# Altium schematic symbol library Chip ceramic capacitors.SchLib: 36 symbols
Pins are listed as number, name and electrical type; pins without a type are passive.

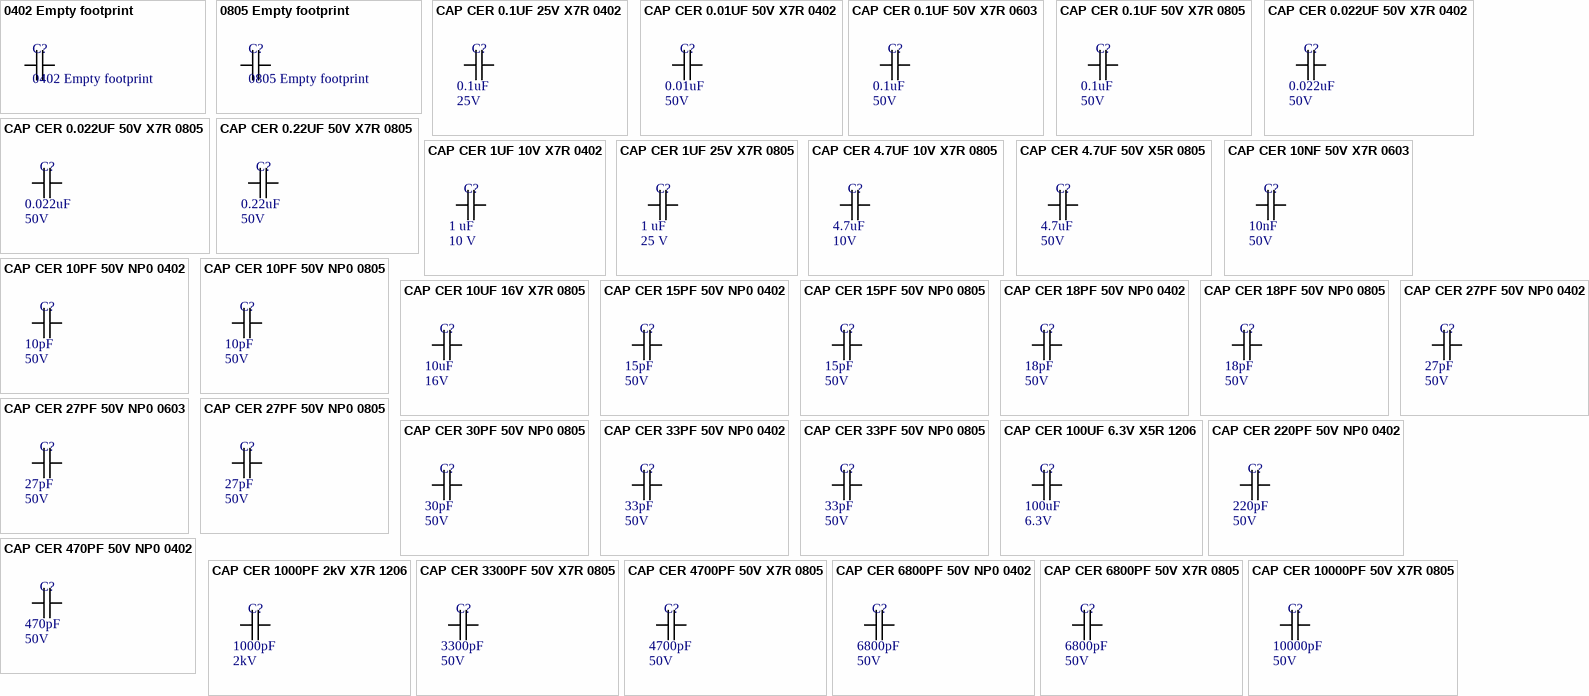
[diagram p0: symbols 0402 Empty footprint to CAP CER 10000PF 50V X7R 0805]

## 0402 Empty footprint
designator C?
footprint LC-0402_C
footprint LC-0402
pins: 1, 2

## 0805 Empty footprint
designator C?
Dielectric: x7r
footprint LC-0805_C
footprint LC-0805
pins: 1, 2

## CAP CER 0.1UF 25V X7R 0402
designator C?  value 0.1uF  Voltage: 25V  (hidden comment: CAP CER 0.1UF 25V X7R 0402)
Dielectric: x7r
footprint LC-0402_C
footprint LC-0402
pins: 1, 2

## CAP CER 0.01UF 50V X7R 0402
designator C?  value 0.01uF  Voltage: 50V  (hidden comment: CAP CER 0.01UF 50V X7R 0402)
Dielectric: x7r
footprint LC-0402_C
footprint LC-0402
pins: 1, 2

## CAP CER 0.1UF 50V X7R 0603
designator C?  value 0.1uF  Voltage: 50V  (hidden comment: CAP CER 0.1UF 50V X7R 0603)
Dielectric: x7r
footprint LC-0603_C
pins: 1, 2

## CAP CER 0.1UF 50V X7R 0805
designator C?  value 0.1uF  Voltage: 50V  (hidden comment: CAP CER 0.1UF 50V X7R 0805)
Dielectric: x7r; Supplier 1: Digi-Key; Supplier 2: Digi-Key; Supplier 3: Digi-Key; Supplier 4: Digi-Key; Supplier Part Number 1: 1276-1180-6-ND; Supplier Part Number 2: 478-3351-6-ND; Supplier Part Number 3: 1276-1003-1-ND; Supplier Part Number 4: 478-1395-6-ND
footprint LC-0805_C
footprint LC-0805
pins: 1, 2

## CAP CER 0.022UF 50V X7R 0402
designator C?  value 0.022uF  Voltage: 50V  (hidden comment: CAP CER 0.022UF 50V X7R 0402)
Dielectric: x7r
footprint LC-0402_C
footprint LC-0402
pins: 1, 2

## CAP CER 0.022UF 50V X7R 0805
designator C?  value 0.022uF  Voltage: 50V  (hidden comment: CAP CER 0.022UF 50V X7R 0805)
Dielectric: x7r; Supplier 1: Digi-Key; Supplier 2: Digi-Key; Supplier 3: Digi-Key; Supplier 4: Digi-Key; Supplier Part Number 1: 311-1138-6-ND; Supplier Part Number 2: 1276-1081-6-ND; Supplier Part Number 3: 478-1387-6-ND; Supplier Part Number 4: 399-1163-6-ND
footprint LC-0805_C
footprint LC-0805
pins: 1, 2

## CAP CER 0.22UF 50V X7R 0805
designator C?  value 0.22uF  Voltage: 50V  (hidden comment: CAP CER 0.22UF 50V X7R 0805)
Dielectric: x7r
footprint LC-0805_C
footprint LC-0805
pins: 1, 2

## CAP CER 1UF 10V X7R 0402
designator C?  value 1 uF  Voltage: 10 V  (hidden comment: CAP CER 1UF 10V X7R 0402)
Dielectric: x7r
footprint LC-0402_C
footprint LC-0402
pins: 1, 2

## CAP CER 1UF 25V X7R 0805
designator C?  value 1 uF  Voltage: 25 V  (hidden comment: CAP CER 1UF 25V X7R 0805)
Dielectric: x7r
footprint LC-0805_C
footprint LC-0805
pins: 1, 2

## CAP CER 4.7UF 10V X7R 0805
designator C?  value 4.7uF  Voltage: 10V  (hidden comment: CAP CER 4.7UF 10V X7R 0805)
Dielectric: x7r; Supplier 1: Digi-Key; Supplier 2: Digi-Key; Supplier 3: Digi-Key; Supplier 4: Digi-Key; Supplier Part Number 1: 587-1442-6-ND; Supplier Part Number 2: 1276-2972-6-ND; Supplier Part Number 3: 490-6479-6-ND; Supplier Part Number 4: 445-1605-6-ND
footprint LC-0805_C
footprint LC-0805
pins: 1, 2

## CAP CER 4.7UF 50V X5R 0805
designator C?  value 4.7uF  Voltage: 50V  (hidden comment: CAP CER 4.7UF 50V X5R 0805)
Dielectric: x5r
footprint LC-0805_C
footprint LC-0805
pins: 1, 2

## CAP CER 10NF 50V X7R 0603
designator C?  value 10nF  Voltage: 50V  (hidden comment: CAP CER 10NF 50V X7R 0603)
Dielectric: x7r
footprint LC-0603_C
pins: 1, 2

## CAP CER 10PF 50V NP0 0402
designator C?  value 10pF  Voltage: 50V  (hidden comment: CAP CER 10PF 50V NP0 0402)
Dielectric: np0
footprint LC-0402_C
footprint LC-0402
pins: 1, 2

## CAP CER 10PF 50V NP0 0805
designator C?  value 10pF  Voltage: 50V  (hidden comment: CAP CER 10PF 50V NP0 0805)
Dielectric: np0
footprint LC-0805_C
footprint LC-0805
pins: 1, 2

## CAP CER 10UF 16V X7R 0805
designator C?  value 10uF  Voltage: 16V  (hidden comment: CAP CER 10UF 16V X7R 0805)
Dielectric: x7r
footprint LC-0805_C
footprint LC-0805
pins: 1, 2

## CAP CER 15PF 50V NP0 0402
designator C?  value 15pF  Voltage: 50V  (hidden comment: CAP CER 15PF 50V NP0 0402)
Dielectric: np0
footprint LC-0402_C
footprint LC-0402
pins: 1, 2

## CAP CER 15PF 50V NP0 0805
designator C?  value 15pF  Voltage: 50V  (hidden comment: CAP CER 15PF 50V NP0 0805)
Dielectric: np0
footprint LC-0805_C
footprint LC-0805
pins: 1, 2

## CAP CER 18PF 50V NP0 0402
designator C?  value 18pF  Voltage: 50V  (hidden comment: CAP CER 18PF 50V NP0 0402)
Dielectric: np0
footprint LC-0402_C
footprint LC-0402
pins: 1, 2

## CAP CER 18PF 50V NP0 0805
designator C?  value 18pF  Voltage: 50V  (hidden comment: CAP CER 18PF 50V NP0 0805)
Dielectric: np0
footprint LC-0805_C
pins: 1, 2

## CAP CER 27PF 50V NP0 0402
designator C?  value 27pF  Voltage: 50V  (hidden comment: CAP CER 27PF 50V NP0 0402)
Dielectric: np0
footprint LC-0402_C
footprint LC-0402
pins: 1, 2

## CAP CER 27PF 50V NP0 0603
designator C?  value 27pF  Voltage: 50V  (hidden comment: CAP CER 27PF 50V NP0 0603)
Dielectric: np0
footprint LC-0603_C
pins: 1, 2

## CAP CER 27PF 50V NP0 0805
designator C?  value 27pF  Voltage: 50V  (hidden comment: CAP CER 27PF 50V NP0 0805)
Dielectric: np0; Supplier 1: Digi-Key; Supplier 2: Digi-Key; Supplier 3: Digi-Key; Supplier 4: Digi-Key; Supplier Part Number 1: 399-8056-6-ND; Supplier Part Number 2: 709-1173-1-ND; Supplier Part Number 3: 1276-1285-6-ND; Supplier Part Number 4: 1276-6859-6-ND
footprint LC-0805_C
footprint LC-0805
pins: 1, 2

## CAP CER 30PF 50V NP0 0805
designator C?  value 30pF  Voltage: 50V  (hidden comment: CAP CER 30PF 50V NP0 0805)
Dielectric: np0; Supplier 1: Digi-Key; Supplier Part Number 1: 1276-1130-1-ND
footprint LC-0805_C
footprint LC-0805
pins: 1, 2

## CAP CER 33PF 50V NP0 0402
designator C?  value 33pF  Voltage: 50V  (hidden comment: CAP CER 33PF 50V NP0 0402)
Dielectric: np0
footprint LC-0402_C
footprint LC-0402
pins: 1, 2

## CAP CER 33PF 50V NP0 0805
designator C?  value 33pF  Voltage: 50V  (hidden comment: CAP CER 33PF 50V NP0 0805)
Dielectric: np0
footprint LC-0805_C
footprint LC-0805
pins: 1, 2

## CAP CER 100UF 6.3V X5R 1206
designator C?  value 100uF  Voltage: 6.3V  (hidden comment: CAP CER 100UF 6.3V X5R 1206)
Dielectric: x5r
footprint LC-1206_C
footprint LC-1206
pins: 1, 2

## CAP CER 220PF 50V NP0 0402
designator C?  value 220pF  Voltage: 50V  (hidden comment: CAP CER 220PF 50V NP0 0402)
Dielectric: np0
footprint LC-0402_C
footprint LC-0402
pins: 1, 2

## CAP CER 470PF 50V NP0 0402
designator C?  value 470pF  Voltage: 50V  (hidden comment: CAP CER 470PF 50V NP0 0402)
Dielectric: np0
footprint LC-0402_C
footprint LC-0402
pins: 1, 2

## CAP CER 1000PF 2kV X7R 1206
designator C?  value 1000pF  Voltage: 2kV  (hidden comment: CAP CER 1000PF 2kV X7R 1206)
Dielectric: x7r
footprint LC-1206_C
footprint LC-1206
pins: 1, 2

## CAP CER 3300PF 50V X7R 0805
designator C?  value 3300pF  Voltage: 50V  (hidden comment: CAP CER 3300PF 50V X7R 0805)
Dielectric: x7r
footprint LC-0805_C
footprint LC-0805
pins: 1, 2

## CAP CER 4700PF 50V X7R 0805
designator C?  value 4700pF  Voltage: 50V  (hidden comment: CAP CER 4700PF 50V X7R 0805)
Dielectric: x7r; Supplier 1: Digi-Key; Supplier 2: Digi-Key; Supplier 3: Digi-Key; Supplier 4: Digi-Key; Supplier Part Number 1: 490-9746-6-ND; Supplier Part Number 2: 1276-1155-6-ND; Supplier Part Number 3: 399-1155-6-ND; Supplier Part Number 4: 311-1133-6-ND
footprint LC-0805_C
footprint LC-0805
pins: 1, 2

## CAP CER 6800PF 50V NP0 0402
designator C?  value 6800pF  Voltage: 50V  (hidden comment: CAP CER 6800PF 50V NP0 0402)
Dielectric: np0
footprint LC-0402_C
footprint LC-0402
pins: 1, 2

## CAP CER 6800PF 50V X7R 0805
designator C?  value 6800pF  Voltage: 50V  (hidden comment: CAP CER 6800PF 50V X7R 0805)
Dielectric: x7r
footprint LC-0805_C
footprint LC-0805
pins: 1, 2

## CAP CER 10000PF 50V X7R 0805
designator C?  value 10000pF  Voltage: 50V  (hidden comment: CAP CER 10000PF 50V X7R 0805)
Dielectric: x7r
footprint LC-0805_C
footprint LC-0805
pins: 1, 2